# EAGLE library part SSM6P49 (library PCB_KioskMB_r3.3-05)
MOSFET P-CH DUAL 30V UDFN6, 4A, 20V
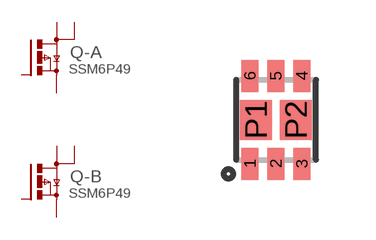
[diagram p27: symbol with the pads of MICRO_FET; footprint MICRO_FET]

Designator prefix Q; gates -A=MOSFET-P-2D -B=MOSFET-P-2D

## SSM6P49PZ, SSM6P49NU,LFPZ  [MICRO_FET]
1  -A:S  pas
2  -A:G  pas
3  -B:D  pas
4  -B:S  pas
5  -B:G  pas
6  -A:D  pas
P1  -A:D1  pas
P2  -B:D1  pas

## Footprint MICRO_FET (pad centres in mm)
Micro-FET 2x2 mm package, Fairchild PowerTrench
smd 0.42 x 0.8: 1 -0.65,-1.1; 2 0,-1.1; 3 0.65,-1.1; 4 0.65,1.1; 5 0,1.1; 6 -0.65,1.1
smd 0.8 x 1: P1 -0.5,0; P2 0.5,0